# Altium schematic symbol library Buttons.SchLib: 3 symbols
Pins are listed as number, name and electrical type; pins without a type are passive.

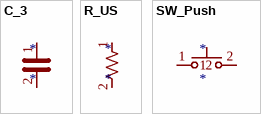
[diagram p0: symbols C_3 to SW_Push]

## C_3
designator *
pins: 1, 2

## R_US
designator *
pins: 1, 2

## SW_Push
designator *
pins: 1, 2